# Altium schematic symbol library F60N120T.SchLib: 1 symbol
Pins are listed as number, name and electrical type; pins without a type are passive.

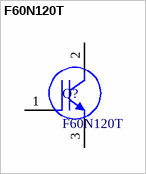
[diagram p0: symbol F60N120T]

## F60N120T
designator Q?
footprint TO-264-3
pins: 1 G, 2 C, 3 E